# Altium footprint library BNO055.PcbLib: 1 footprints
Each footprint in its own frame and in the unit in brackets; x right, y up, seen from the top. Pads: shape width x height; smd on the part's side, far side on the other; paste and mask are expansions set on the pad; w line width, h text height; cw(c..) or ccw(c..) is an arc to the next point about the centre after c.
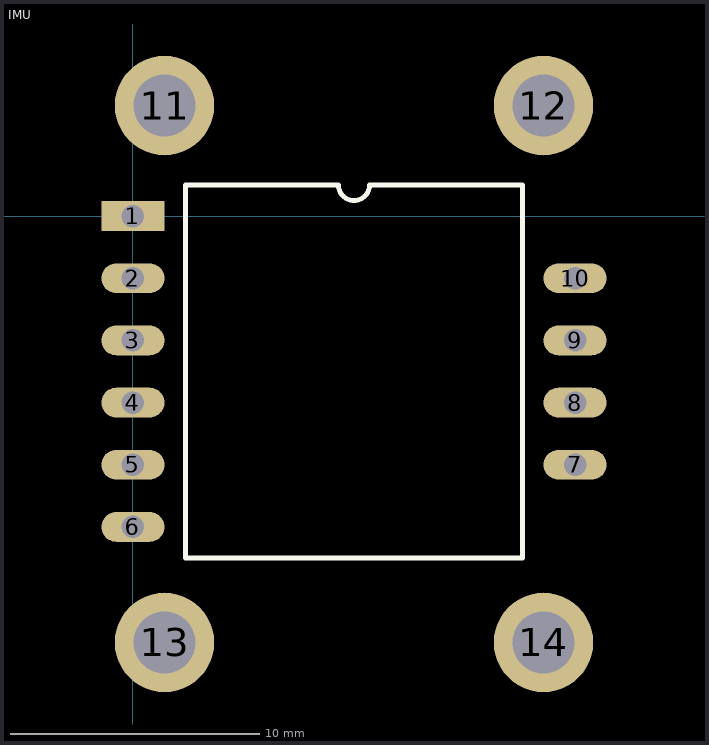
[diagram p0: the footprint, top view; thin cyan lines are the x and y axes]

## IMU [mm]
pads (14):
  rect 2.54x1.2 hole 0.9: 1(0,0)
  oval 2.54x1.2 hole 0.9: 2(0,-2.5) 3(0,-5) 4(0,-7.5) 5(0,-10) 6(0,-12.5) 7(17.78,-10) 8(17.78,-7.5) 9(17.78,-5) 10(17.78,-2.5)
  round 4 hole 2.5: 11(1.27,4.445) 12(16.51,4.445) 13(1.27,-17.145) 14(16.51,-17.145)
Top Overlay:
  lines w0.2: 2.105,-13.75 2.105,1.25 8.265,1.25 ccw(c8.89,1.25) 9.515,1.25 15.675,1.25 15.675,-13.75 2.105,-13.75